# Altium schematic symbol library D6R60_F1_LFS.SchLib: 1 symbol
Pins are listed as number, name and electrical type; pins without a type are passive.

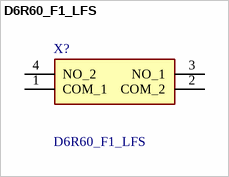
[diagram p0: symbol D6R60_F1_LFS]

## D6R60_F1_LFS
designator X?
Switch: keypad; Pos:2; SPST-NO; 0.01A/32VDC; blue; THT; 1.3N; round; Manufacturer_Name: LITTELFUSE; Manufacturer_Part_Number: D6R60 F1 LFS; Geometry.Height: 12.8mm; Mouser Part Number: 611-D6R60F1LFS; Mouser Price/Stock: https://www.mouser.co.uk/ProductDetail/CK/D6R60-F1-LFS?qs=ljbEvF4DwON75ZvAORmL0g%3D%3D; Datasheet Link: *
footprint D6R60F1LFS
pins: 1 COM_1, 2 COM_2, 3 NO_1, 4 NO_2